# EAGLE library part 87264-10_S (library untitled)
RECEPTACAL
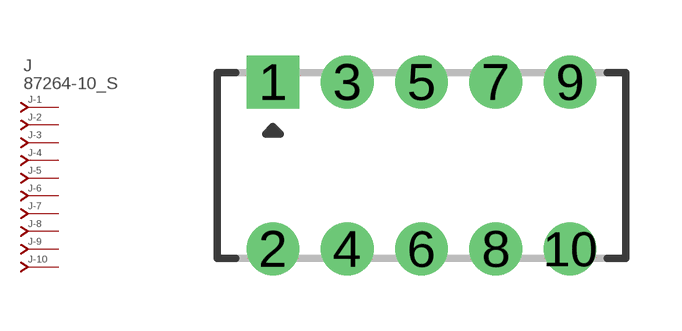
[diagram p284: symbol with the pads of 87264-10; footprint 87264-10]

Designator prefix J; gates -1=J-NV -2=J-N -3=J-N -4=J-N -5=J-N -6=J-N -7=J-N -8=J-N -9=J-N -10=J-N

## 87264-10_S  [87264-10]
1  -1:J  pas
2  -2:J  pas
3  -3:J  pas
4  -4:J  pas
5  -5:J  pas
6  -6:J  pas
7  -7:J  pas
8  -8:J  pas
9  -9:J  pas
10  -10:J  pas

## Footprint 87264-10 (pad centres in mm)
RECEPTACAL Dual Row, Side Entry
drill 0.914 square: 1 -4,2.25
drill 0.914 round: 2 -4,-2.25; 3 -2,2.25; 4 -2,-2.25; 5 0,2.25; 6 0,-2.25; 7 2,2.25; 8 2,-2.25; 9 4,2.25; 10 4,-2.25